# EAGLE library part Z180 (library oldchips)
Z180 8-bit MPU Zilog
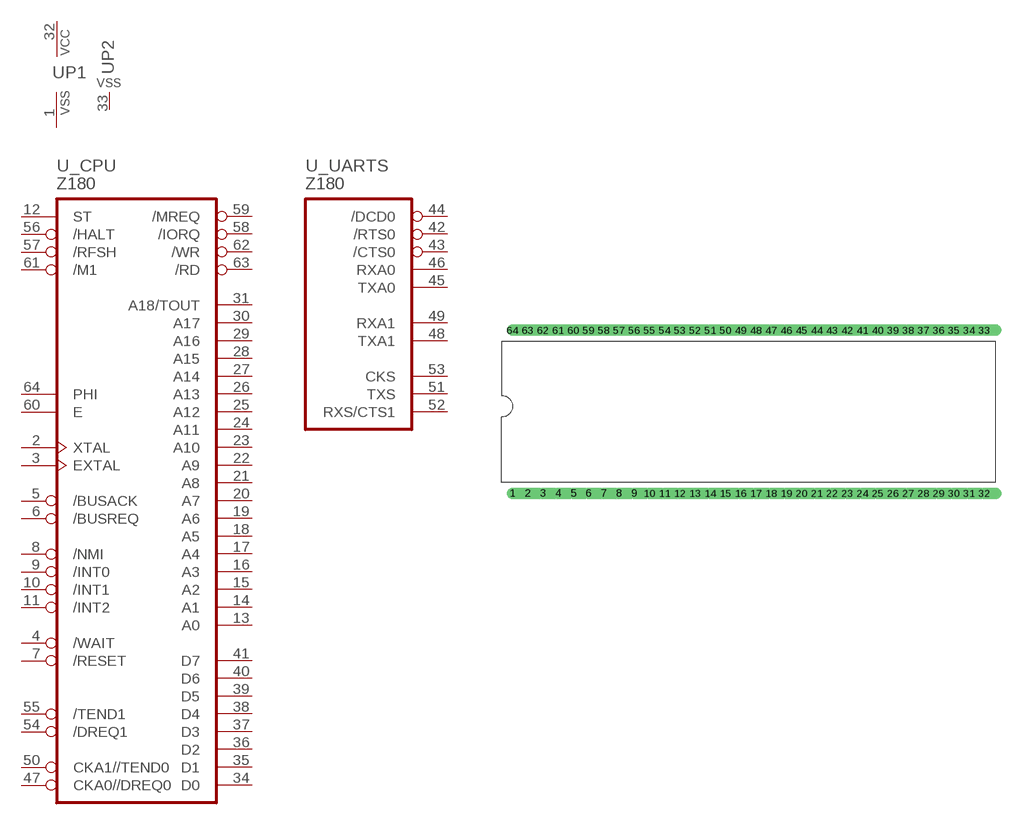
[diagram p19: symbol with the pads of DIL64-0.70; footprint DIL64-0.70]

Designator prefix U; gates _CPU=Z180 _UARTS=UART P1=VCCVSS P2=VSS

## Z180  [DIL64-0.70]
1  P1:VSS  pwr
2  _CPU:XTAL  in
3  _CPU:EXTAL  in
4  _CPU:/WAIT  in
5  _CPU:/BUSACK  out
6  _CPU:/BUSREQ  in
7  _CPU:/RESET  in
8  _CPU:/NMI  in
9  _CPU:/INT0  in
10  _CPU:/INT1  in
11  _CPU:/INT2  in
12  _CPU:ST  out
13  _CPU:A0  out
14  _CPU:A1  out
15  _CPU:A2  out
16  _CPU:A3  out
17  _CPU:A4  out
18  _CPU:A5  out
19  _CPU:A6  out
20  _CPU:A7  out
21  _CPU:A8  out
22  _CPU:A9  out
23  _CPU:A10  out
24  _CPU:A11  out
25  _CPU:A12  out
26  _CPU:A13  out
27  _CPU:A14  out
28  _CPU:A15  out
29  _CPU:A16  out
30  _CPU:A17  out
31  _CPU:A18/TOUT  out
32  P1:VCC  pwr
33  P2:VSS  pwr
34  _CPU:D0
35  _CPU:D1
36  _CPU:D2
37  _CPU:D3
38  _CPU:D4
39  _CPU:D5
40  _CPU:D6
41  _CPU:D7
42  _UARTS:/RTS0  out
43  _UARTS:/CTS0  in
44  _UARTS:/DCD0  in
45  _UARTS:TXA0  out
46  _UARTS:RXA0  in
47  _CPU:CKA0//DREQ0
48  _UARTS:TXA1  out
49  _UARTS:RXA1  in
50  _CPU:CKA1//TEND0
51  _UARTS:TXS  out
52  _UARTS:RXS/CTS1  in
53  _UARTS:CKS  out
54  _CPU:/DREQ1  in
55  _CPU:/TEND1  out
56  _CPU:/HALT  out
57  _CPU:/RFSH  out
58  _CPU:/IORQ  out
59  _CPU:/MREQ  out
60  _CPU:E  out
61  _CPU:/M1  out
62  _CPU:/WR  out
63  _CPU:/RD  out
64  _CPU:PHI  out

## Footprint DIL64-0.70 (pad centres in mm)
drill 0.813 offset: 1 0,0; 2 1.778,0; 3 3.556,0; 4 5.334,0; 5 7.112,0; 6 8.89,0; 7 10.668,0; 8 12.446,0; 9 14.224,0; 10 16.002,0; 11 17.78,0; 12 19.558,0; 13 21.336,0; 14 23.114,0; 15 24.892,0; 16 26.67,0; 17 28.448,0; 18 30.226,0; 19 32.004,0; 20 33.782,0; 21 35.56,0; 22 37.338,0; 23 39.116,0; 24 40.894,0; 25 42.672,0; 26 44.45,0; 27 46.228,0; 28 48.006,0; 29 49.784,0; 30 51.562,0; 31 53.34,0; 32 55.118,0; 33 55.118,19.05; 34 53.34,19.05; 35 51.562,19.05; 36 49.784,19.05; 37 48.006,19.05; 38 46.228,19.05; 39 44.45,19.05; 40 42.672,19.05; 41 40.894,19.05; 42 39.116,19.05; 43 37.338,19.05; 44 35.56,19.05; 45 33.782,19.05; 46 32.004,19.05; 47 30.226,19.05; 48 28.448,19.05; 49 26.67,19.05; 50 24.892,19.05; 51 23.114,19.05; 52 21.336,19.05; 53 19.558,19.05; 54 17.78,19.05; 55 16.002,19.05; 56 14.224,19.05; 57 12.446,19.05; 58 10.668,19.05; 59 8.89,19.05; 60 7.112,19.05; 61 5.334,19.05; 62 3.556,19.05; 63 1.778,19.05; 64 0,19.05